# EAGLE library part PIONEER (library IOTExpert)
Arduino shield footprint
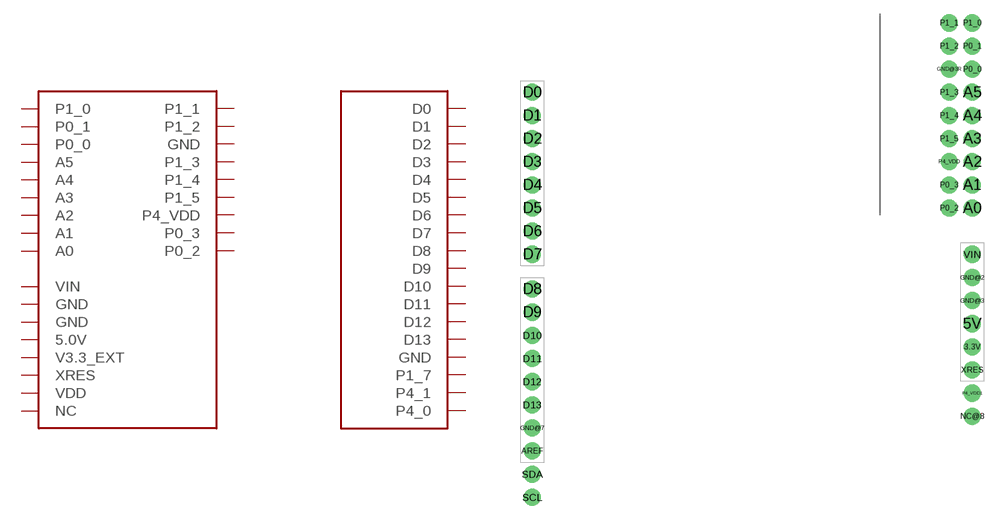
[diagram p2: symbol with the pads of PIONEER; footprint PIONEER]

Designator prefix U

## PIONEERNO_SILK  [PIONEER]
3.3V  V3.3_EXT
5V  5.0V
A0  A0
A1  A1
A2  A2
A3  A3
A4  A4
A5  A5
AREF  P1_7
D0  D0
D1  D1
D2  D2
D3  D3
D4  D4
D5  D5
D6  D6
D7  D7
D8  D8
D9  D9
D10  D10
D11  D11
D12  D12
D13  D13
GND@2  GND
GND@3  GND
GND@3R  GND
GND@7  GND
NC@8  NC
P0_0  P0_0
P0_1  P0_1
P0_2  P0_2
P0_3  P0_3
P1_0  P1_0
P1_1  P1_1
P1_2  P1_2
P1_3  P1_3
P1_4  P1_4
P1_5  P1_5
P4_VDD  P4_VDD
P4_VDD1  VDD
SCL  P4_0
SDA  P4_1
VIN  VIN
XRES  XRES

## Footprint PIONEER (pad centres in mm)
drill 1.016 pad 1.88: 3.3V 50.8,13.97; 5V 50.8,16.51; A0 50.8,29.21; A1 50.8,31.75; A2 50.8,34.29; A3 50.8,36.83; A4 50.8,39.37; A5 50.8,41.91; AREF 2.54,2.54; D0 2.54,41.91; D1 2.54,39.37; D2 2.54,36.83; D3 2.54,34.29; D4 2.54,31.75; D5 2.54,29.21; D6 2.54,26.67; D7 2.54,24.13; D8 2.54,20.32; D9 2.54,17.78; D10 2.54,15.24; D11 2.54,12.7; D12 2.54,10.16; D13 2.54,7.62; GND@2 50.8,21.59; GND@3 50.8,19.05; GND@3R 48.26,44.45; GND@7 2.54,5.08; NC@8 50.8,6.35; P0_0 50.8,44.45; P0_1 50.8,46.99; P0_2 48.26,29.21; P0_3 48.26,31.75; P1_0 50.8,49.53; P1_1 48.26,49.53; P1_2 48.26,46.99; P1_3 48.26,41.91; P1_4 48.26,39.37; P1_5 48.26,36.83; P4_VDD 48.26,34.29; P4_VDD1 50.8,8.89; SCL 2.54,-2.54; SDA 2.54,0; VIN 50.8,24.13; XRES 50.8,11.43